# EAGLE library part SMH-106-XX-X-D (library samtec)
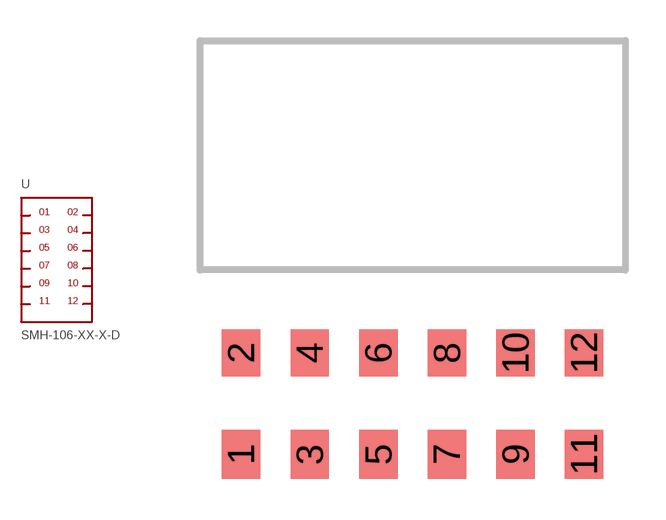
[diagram p11: symbol with the pads of SMH-106-XX-X-D; footprint SMH-106-XX-X-D]

Designator prefix -

## SMH-106-XX-X-D  [SMH-106-XX-X-D]
1  1
2  2
3  3
4  4
5  5
6  6
7  7
8  8
9  9
10  10
11  11
12  12

## Footprint SMH-106-XX-X-D (pad centres in mm)
smd 1.422 x 1.829: 1 -6.35,-1.905; 3 -3.81,-1.905; 5 -1.27,-1.905; 7 1.27,-1.905; 9 3.81,-1.905; 11 6.35,-1.905
smd 1.422 x 1.727: 2 -6.35,1.854; 4 -3.81,1.854; 6 -1.27,1.854; 8 1.27,1.854; 10 3.81,1.854; 12 6.35,1.854